# Altium schematic symbol library Potenciometers.SchLib: 5 symbols
Pins are listed as number, name and electrical type; pins without a type are passive.

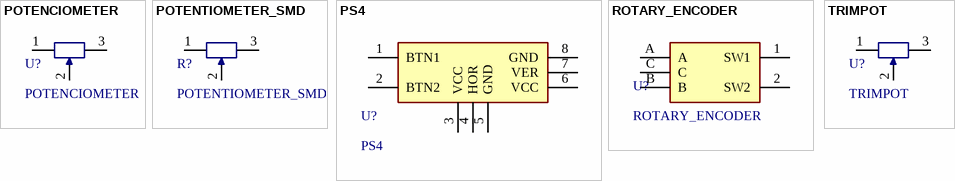
[diagram p0: symbols POTENCIOMETER to TRIMPOT]

## POTENCIOMETER
designator U?
footprint POTENTIOMETER
pins: 1, 2, 3

## POTENTIOMETER_SMD
designator R?
footprint POTENCIOMETER_SMD
pins: 1, 2, 3

## PS4
designator U?
footprint PS4
pins: 1 BTN1, 2 BTN2, 3 VCC, 4 HOR, 5 GND, 6 VCC, 7 VER, 8 GND

## ROTARY_ENCODER
designator U?
JLCPCB PN: C143789
footprint ROTARY_ENCODER
pins: 1 SW1, 2 SW2, A, B, C

## TRIMPOT
designator U?
footprint TRIMPOT_1
footprint TRIMPOT_2
pins: 1, 2, 3